# Altium footprint library WL-SBSW.PcbLib: 1 footprints
Each footprint in its own frame and in the unit in brackets; x right, y up, seen from the top. Pads: shape width x height; smd on the part's side, far side on the other; paste and mask are expansions set on the pad; w line width, h text height; cw(c..) or ccw(c..) is an arc to the next point about the centre after c.
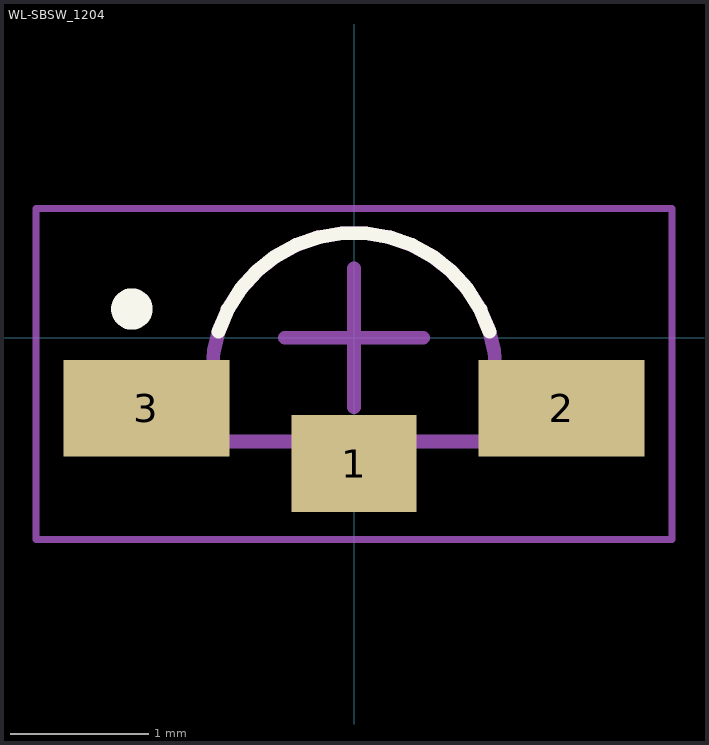
[diagram p0: the footprint, top view; thin cyan lines are the x and y axes]

## WL-SBSW_1204 [mm] "SMD Bi-color Side view Waterclear, body 3.2x1mm"
height 1
pads (3):
  rect 0.9x0.7 smd: 1(0,-0.91)
  rect 1.2x0.7 smd: 2(1.5,-0.51) 3(-1.5,-0.51)
Top Overlay:
  circle w0.15: c-1.605,0.207 r0.075
  lines w0.1: -0.979,0.043 cw(c0,-0.27) 0.979,0.043
Top Assembly:
  rectangle: -1.6,-0.8 -1.1,-0.27
  lines w0.1: -1.6,-0.75 1.6,-0.75 1.6,-0.27 1.028,-0.27 ccw(c0,-0.27) -1.028,-0.27 -1.6,-0.27 -1.6,-0.75
Top Designator:
  text ".Designator" at -3.647,-0.357 h1
Top 3D Body:
  rectangle: -1.6,-0.8 -1.1,-0.27
Top Courtyard:
  lines w0.05: -2.3,-1.46 2.3,-1.46 2.3,0.935 -2.3,0.935 -2.3,-1.46
Top Component Center:
  lines w0.1: -0.5,0 0.5,0 ; 0,-0.5 0,0.5
3D body "155124xx73200.stp": height 1.02, standoff 0.02, extent -1.6,-0.765 1.6,0.735